# EAGLE library part ORESAT-DEBUG-CONNECTOR-MIRRORED (library oresat-debug-connector)
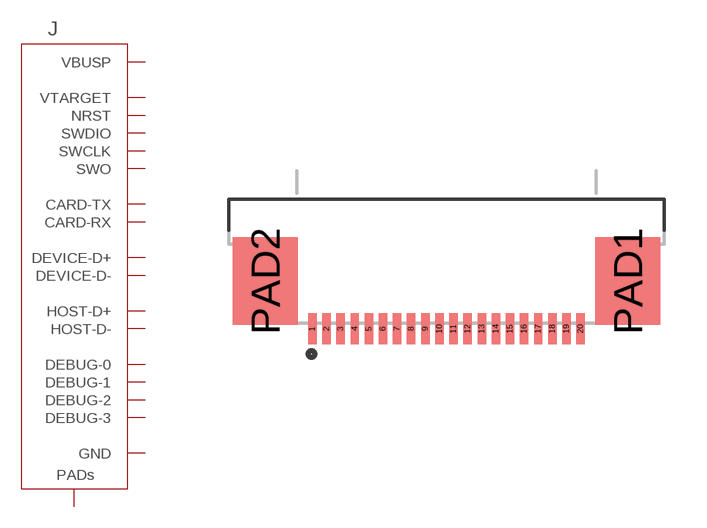
[diagram p1: symbol with the pads of TE_2-1734592-0; footprint TE_2-1734592-0]

Designator prefix J

## ORESAT-DEBUG-CONNECTOR-MIRRORED-ALL  [TE_2-1734592-0]
1  DEBUG-3  pas
2  DEBUG-2  pas
3  DEBUG-1  pas
4  DEBUG-0  pas
5  SWO  pas
6  SWCLK  pas
7  SWDIO  pas
8  CARD-TX  pas
9  CARD-RX  pas
10  VTARGET  pas
11  NRST  pas
12  GND  pas
13  HOST-D-  pas
14  HOST-D+  pas
15  GND  pas
16  DEVICE-D-  pas
17  DEVICE-D+  pas
18  GND  pas
19  VBUSP  pas
20  VBUSP  pas
PAD1  PAD
PAD2  PAD

## Footprint TE_2-1734592-0 (pad centres in mm)
smd 0.3 x 1.1: 1 -4.75,-1.7; 2 -4.25,-1.7; 3 -3.75,-1.7; 4 -3.25,-1.7; 5 -2.75,-1.7; 6 -2.25,-1.7; 7 -1.75,-1.7; 8 -1.25,-1.7; 9 -0.75,-1.7; 10 -0.25,-1.7; 11 0.25,-1.7; 12 0.75,-1.7; 13 1.25,-1.7; 14 1.75,-1.7; 15 2.25,-1.7; 16 2.75,-1.7; 17 3.25,-1.7; 18 3.75,-1.7; 19 4.25,-1.7; 20 4.75,-1.7
smd 2.3 x 3.1: PAD1 6.42,0; PAD2 -6.42,0